# EAGLE library part L6206Q (library r_cubed)
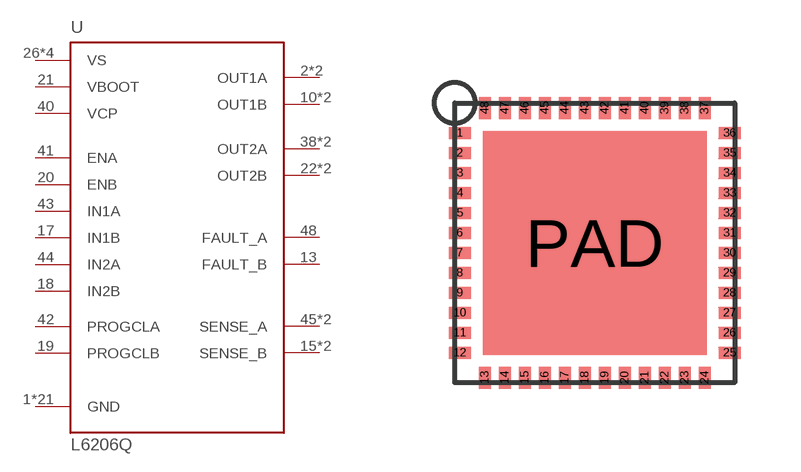
[diagram p6: symbol with the pads of VFQFPN48; footprint VFQFPN48]

Designator prefix -

## L6206Q  [VFQFPN48]
1  GND
2  OUT1A
3  OUT1A
4  GND
5  GND
6  GND
7  GND
8  GND
9  GND
10  OUT1B
11  OUT1B
12  GND
13  FAULT_B
14  GND
15  SENSE_B
16  SENSE_B
17  IN1B
18  IN2B
19  PROGCLB
20  ENB
21  VBOOT
22  OUT2B
23  OUT2B
24  GND
25  GND
26  VS
27  VS
28  GND
29  GND
30  GND
31  GND
32  GND
33  GND
34  VS
35  VS
36  GND
37  GND
38  OUT2A
39  OUT2A
40  VCP
41  ENA
42  PROGCLA
43  IN1A
44  IN2A
45  SENSE_A
46  SENSE_A
47  GND
48  FAULT_A
PAD  GND

## Footprint VFQFPN48 (pad centres in mm)
smd 0.55 x 0.3: 1 -3.375,2.75; 2 -3.375,2.25; 3 -3.375,1.75; 4 -3.375,1.25; 5 -3.375,0.75; 6 -3.375,0.25; 7 -3.375,-0.25; 8 -3.375,-0.75; 9 -3.375,-1.25; 10 -3.375,-1.75; 11 -3.375,-2.25; 12 -3.375,-2.75; 25 3.375,-2.75; 26 3.375,-2.25; 27 3.375,-1.75; 28 3.375,-1.25; 29 3.375,-0.75; 30 3.375,-0.25; 31 3.375,0.25; 32 3.375,0.75; 33 3.375,1.25; 34 3.375,1.75; 35 3.375,2.25; 36 3.375,2.75
smd 0.3 x 0.55: 13 -2.75,-3.375; 14 -2.25,-3.375; 15 -1.75,-3.375; 16 -1.25,-3.375; 17 -0.75,-3.375; 18 -0.25,-3.375; 19 0.25,-3.375; 20 0.75,-3.375; 21 1.25,-3.375; 22 1.75,-3.375; 23 2.25,-3.375; 24 2.75,-3.375; 37 2.75,3.375; 38 2.25,3.375; 39 1.75,3.375; 40 1.25,3.375; 41 0.75,3.375; 42 0.25,3.375; 43 -0.25,3.375; 44 -0.75,3.375; 45 -1.25,3.375; 46 -1.75,3.375; 47 -2.25,3.375; 48 -2.75,3.375
smd 5.6 x 5.6: PAD 0,0